# Altium schematic symbol library EEPROMs.SchLib: 1 symbol
Pins are listed as number, name and electrical type; pins without a type are passive.

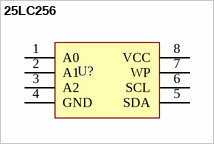
[diagram p0: symbol 25LC256]

## 25LC256
designator U?  (value not drawn)
256K I2C CMOS Serial EEPROM
footprint SOIC8
footprint TSOP65P640X120-8M (TSOP, 8-Leads, Body 3.0x4.5mm (max), Pitch 0.65mm, IPC Low Density)
pins: 1 A0, 2 A1, 3 A2, 4 GND, 5 SDA, 6 SCL, 7 WP, 8 VCC